# Altium footprint library PcbLib.PcbLib: 285 footprints (part 10 of 18)
Each footprint in its own frame and in the unit in brackets; x right, y up, seen from the top. Pads: shape width x height; smd on the part's side, far side on the other; paste and mask are expansions set on the pad; w line width, h text height; cw(c..) or ccw(c..) is an arc to the next point about the centre after c.
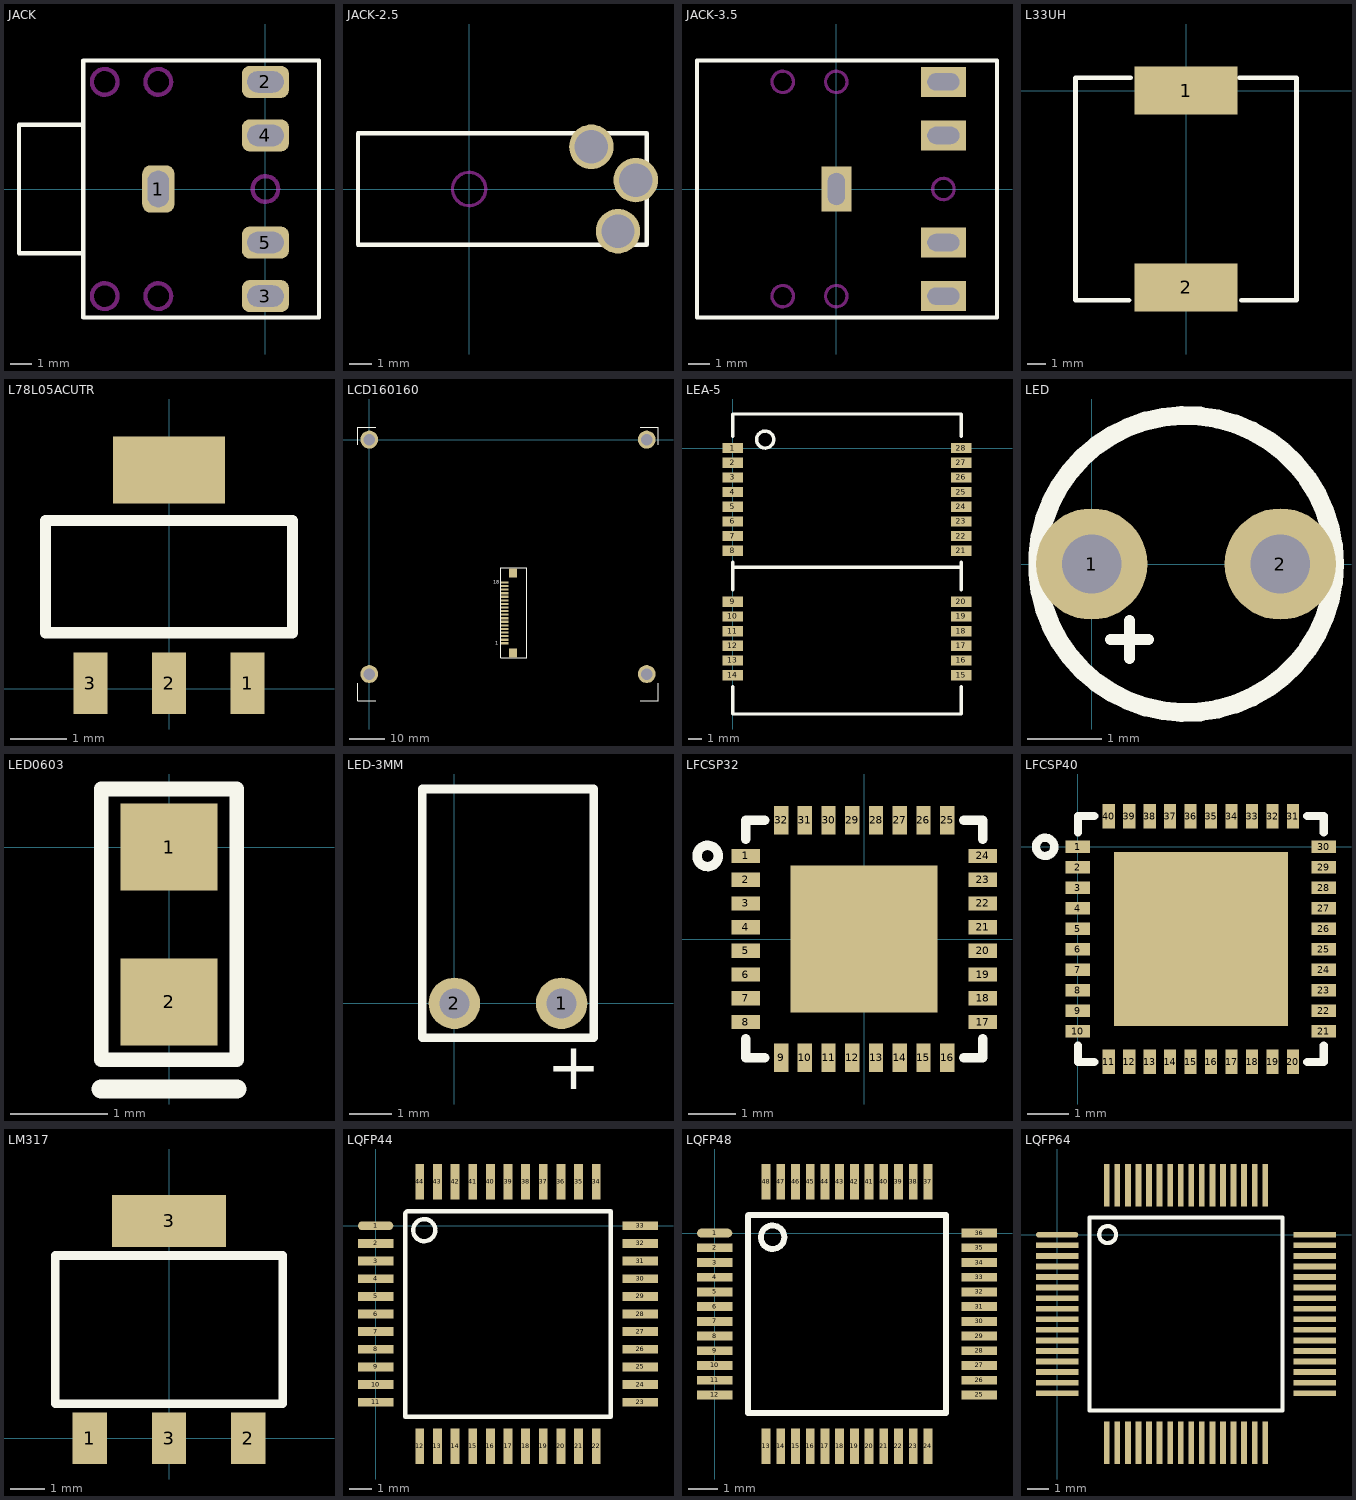
[diagram p9: the footprints below, top view; thin cyan lines are the x and y axes]

## JACK [mm]
pads (5):
  rrect50% 1.5x2.2 hole 1 slot 1.7 at 90 deg: 1(-5,0)
  rrect50% 2.2x1.5 hole 1 slot 1.7 at 0 deg: 2(0,5) 3(0,-5) 4(0,2.5) 5(0,-2.5)
Top Overlay:
  lines w0.2: -8.5,-3 -11.5,-3 -11.5,3 -8.5,3 ; -8.5,-6 2.5,-6 2.5,6 -8.5,6 -8.5,-6
Keep-Out Layer:
  circle w0.2: c0,0 r0.6
  circle w0.2: c-5,-5 r0.6
  circle w0.2: c-5,5 r0.6
  circle w0.2: c-7.5,5 r0.6
  circle w0.2: c-7.5,-5 r0.6

## JACK-2.5 [mm]
pads (3):
  round 2 hole 1.5: ""(5.5,1.9) ""(6.7,-1.9) ""(7.5,0.4)
Top Overlay:
  lines w0.2: -5,-2.5 8,-2.5 8,2.5 -5,2.5 -5,-2.5
Keep-Out Layer:
  circle w0.15: c0,0 r0.75

## JACK-3.5 [mm]
pads (5):
  rect 1.4x2.1 hole 0.8 slot 1.5 at 90 deg: ""(0,0)
  rect 2.1x1.4 hole 0.8 slot 1.5 at 0 deg: ""(5,-5) ""(5,-2.5) ""(5,2.5) ""(5,5)
Top Overlay:
  lines w0.2: -6.5,-6 7.5,-6 7.5,6 -6.5,6 -6.5,-6
Keep-Out Layer:
  circle w0.15: c-2.5,5 r0.5
  circle w0.15: c-2.5,-5 r0.5
  circle w0.15: c0,-5 r0.5
  circle w0.15: c0,5 r0.5
  circle w0.15: c5,0 r0.5

## L33UH [mm]
pads (2):
  rect 5.6x2.6 smd: 1(0,0) 2(0,-10.7)
Top Overlay:
  lines w0.254: -3.1,-11.4 -6,-11.4 -6,-1.2 -6,0 -6,0.7 -3,0.7 ; 2.9,0.7 6,0.7 6,0 6,-0.9 6,-11.4 3,-11.4

## L78L05ACUTR [mm]
pads (4):
  rect 0.6x1.1 smd: 1(1.4,0.1) 2(0,0.1) 3(-1.4,0.1)
  rect 2x1.2 smd: ""(0,3.9)
Top Overlay:
  lines w0.2: -2.2,1 2.2,1 2.2,3 0,3 -2.2,3 -2.2,1

## LCD160160 [mm]
pads (24):
  rect 2x0.6 smd: 1(37.85,-56.9) 2(37.85,-55.9) 3(37.85,-54.9) 4(37.85,-53.9) 5(37.85,-52.9) 6(37.85,-51.9) 7(37.85,-50.9) 8(37.85,-49.9) 9(37.85,-48.9) 10(37.85,-47.9) 11(37.85,-46.9) 12(37.85,-45.9) 13(37.85,-44.9) 14(37.85,-43.9) 15(37.85,-42.9) 16(37.85,-41.9) 17(37.85,-40.9) 18(37.85,-39.9)
  round 5 hole 3.2: ""(0,-65.5) ""(0,0) ""(77.5,-65.5) ""(77.5,0)
  rect 2.2x2.5 smd: ""(40.1,-59.55) ""(40.1,-37.25)
Top Overlay:
  lines w0.254: -3.15,-68 -3.15,-73 1.85,-73 ; -3.15,-1.5 -3.15,3.5 1.85,3.5 ; 43.975,-39.2 43.975,-35.8 36.775,-35.8 36.775,-61 43.975,-61 43.975,-38.946 ; 75.65,-73 80.65,-73 80.65,-68 ; 75.65,3.5 80.65,3.5 80.65,-1.5
  text "1" at 35.15,-57.3 h1
  text "18" at 34.65,-40.3 h1

## LEA-5 [mil]
pads (28):
  rect 60x30 smd: 1(0,0) 2(0,-43) 3(0,-86) 4(0,-129) 5(0,-172) 6(0,-215) 7(0,-258) 8(0,-301) 9(0,-451) 10(0,-494) 11(0,-537) 12(0,-580) 13(0,-623) 14(0,-666) 15(670,-666) 16(670,-623) 17(670,-580) 18(670,-537) 19(670,-494) 20(670,-451) 21(670,-301) 22(670,-258) 23(670,-215) 24(670,-172) 25(670,-129) 26(670,-86) 27(670,-43) 28(670,0)
Top Overlay:
  circle w10: c95,25 r25
  lines w10: 0,-700 0,-780 670,-780 670,-700 ; 0,-415 0,-335 ; 0,-350 670,-350 ; 0,35 0,100 670,100 670,35 ; 670,-415 670,-335

## LED [mm]
pads (2):
  round 1.5 hole 0.8: 1(0,0) 2(2.54,0)
Top Overlay:
  circle w0.254: c1.27,0 r2
  lines w0.15: 0.254,-1.016 0.762,-1.016 ; 0.508,-1.27 0.508,-0.762

## LED0603 [mm]
pads (2):
  rect 1x0.9 smd: 1(0,0) 2(0,-1.6)
Top Overlay:
  lines w0.15: -0.7,-2.2 0.7,-2.2 0.7,0.6 -0.7,0.6 -0.7,-2.2
  lines w0.2: -0.7,-2.5 0.7,-2.5

## LED-3MM [mm]
pads (2):
  round 1.2 hole 0.7: 1(2.5,0) 2(0,0)
Top Overlay:
  lines w0.2: -0.75,-0.8 -0.75,-0.7 -0.75,0 -0.75,5 3.25,5 3.25,0 3.25,-0.8 -0.35,-0.8 -0.75,-0.8
  text "+" at 2.15,-2 h1.1

## LFCSP32 [mm]
pads (33):
  rect 0.6x0.3 smd: 1(-2.5,1.75) 2(-2.5,1.25) 3(-2.5,0.75) 4(-2.5,0.25) 5(-2.5,-0.25) 6(-2.5,-0.75) 7(-2.5,-1.25) 8(-2.5,-1.75) 17(2.5,-1.75) 18(2.5,-1.25) 19(2.5,-0.75) 20(2.5,-0.25) 21(2.5,0.25) 22(2.5,0.75) 23(2.5,1.25) 24(2.5,1.75)
  rect 0.3x0.6 smd: 9(-1.75,-2.5) 10(-1.25,-2.5) 11(-0.75,-2.5) 12(-0.25,-2.5) 13(0.25,-2.5) 14(0.75,-2.5) 15(1.25,-2.5) 16(1.75,-2.5) 25(1.75,2.5) 26(1.25,2.5) 27(0.75,2.5) 28(0.25,2.5) 29(-0.25,2.5) 30(-0.75,2.5) 31(-1.25,2.5) 32(-1.75,2.5)
  rect 3.1x3.1 smd: ""(0,0)
Top Overlay:
  circle w0.2: c-3.3,1.75 r0.224
  lines w0.2: -2.5,-2.1 -2.5,-2.5 -2.1,-2.5 ; -2.5,2.1 -2.5,2.5 -2.1,2.5 ; 2.1,-2.5 2.5,-2.5 2.5,-2.1 ; 2.1,2.5 2.5,2.5 2.5,2.1

## LFCSP40 [mm]
pads (41):
  rect 0.6x0.3 smd: 1(0,0) 2(0,-0.5) 3(0,-1) 4(0,-1.5) 5(0,-2) 6(0,-2.5) 7(0,-3) 8(0,-3.5) 9(0,-4) 10(0,-4.5) 21(6,-4.5) 22(6,-4) 23(6,-3.5) 24(6,-3) 25(6,-2.5) 26(6,-2) 27(6,-1.5) 28(6,-1) 29(6,-0.5) 30(6,0)
  rect 0.3x0.6 smd: 11(0.75,-5.25) 12(1.25,-5.25) 13(1.75,-5.25) 14(2.25,-5.25) 15(2.75,-5.25) 16(3.25,-5.25) 17(3.75,-5.25) 18(4.25,-5.25) 19(4.75,-5.25) 20(5.25,-5.25) 31(5.25,0.75) 32(4.75,0.75) 33(4.25,0.75) 34(3.75,0.75) 35(3.25,0.75) 36(2.75,0.75) 37(2.25,0.75) 38(1.75,0.75) 39(1.25,0.75) 40(0.75,0.75)
  rect 4.25x4.25 smd: ""(3,-2.25)
Top Overlay:
  circle w0.2: c-0.8,0 r0.224
  lines w0.2: 0,-4.85 0,-5.25 0.4,-5.25 ; 0,0.35 0,0.75 0.4,0.75 ; 5.6,-5.25 6,-5.25 6,-4.85 ; 5.6,0.75 6,0.75 6,0.35

## LM317 [mm]
pads (4):
  rect 1x1.5 smd: 1(-2.3,0) 2(2.3,0) 3(0,0)
  rect 3.3x1.5 smd: 3(0,6.3)
Top Overlay:
  lines w0.254: -3.3,1 -3.3,5.3 3.3,5.3 3.3,1 0,1 -3.3,1

## LQFP44 [mm]
pads (44):
  oval 1.6x0.4 smd: 1(0,0)
  rect 1.6x0.4 smd: 2(0,-0.8) 3(0,-1.6) 4(0,-2.4) 5(0,-3.2) 6(0,-4) 7(0,-4.8) 8(0,-5.6) 9(0,-6.4) 10(0,-7.2) 11(0,-8) 23(12,-8) 24(12,-7.2) 25(12,-6.4) 26(12,-5.6) 27(12,-4.8) 28(12,-4) 29(12,-3.2) 30(12,-2.4) 31(12,-1.6) 32(12,-0.8) 33(12,0)
  rect 0.4x1.6 smd: 12(2,-10) 13(2.8,-10) 14(3.6,-10) 15(4.4,-10) 16(5.2,-10) 17(6,-10) 18(6.8,-10) 19(7.6,-10) 20(8.4,-10) 21(9.2,-10) 22(10,-10) 34(10,2) 35(9.2,2) 36(8.4,2) 37(7.6,2) 38(6.8,2) 39(6,2) 40(5.2,2) 41(4.4,2) 42(3.6,2) 43(2.8,2) 44(2,2)
Top Overlay:
  circle w0.2: c2.2,-0.2 r0.5
  lines w0.2: 2.67,0.665 10.665,0.665 10.665,-8.665 1.335,-8.665 1.335,-0.67 1.335,0.565 1.435,0.665 3,0.665

## LQFP48 [mm]
pads (48):
  oval 1.2x0.3 smd: 1(0,0)
  rect 1.2x0.3 smd: 2(0,-0.5) 3(0,-1) 4(0,-1.5) 5(0,-2) 6(0,-2.5) 7(0,-3) 8(0,-3.5) 9(0,-4) 10(0,-4.5) 11(0,-5) 12(0,-5.5) 25(9,-5.5) 26(9,-5) 27(9,-4.5) 28(9,-4) 29(9,-3.5) 30(9,-3) 31(9,-2.5) 32(9,-2) 33(9,-1.5) 34(9,-1) 35(9,-0.5) 36(9,0)
  rect 0.3x1.2 smd: 13(1.75,-7.25) 14(2.25,-7.25) 15(2.75,-7.25) 16(3.25,-7.25) 17(3.75,-7.25) 18(4.25,-7.25) 19(4.75,-7.25) 20(5.25,-7.25) 21(5.75,-7.25) 22(6.25,-7.25) 23(6.75,-7.25) 24(7.25,-7.25) 37(7.25,1.75) 38(6.75,1.75) 39(6.25,1.75) 40(5.75,1.75) 41(5.25,1.75) 42(4.75,1.75) 43(4.25,1.75) 44(3.75,1.75) 45(3.25,1.75) 46(2.75,1.75) 47(2.25,1.75) 48(1.75,1.75)
Top Overlay:
  circle w0.2: c1.97,-0.14 r0.4
  lines w0.2: 1.135,-6.115 1.135,-0.52 1.135,0.605 1.145,0.615 2.27,0.615 7.865,0.615 7.865,-6.115 1.135,-6.115

## LQFP64 [mm]
pads (64):
  oval 2x0.27 smd: 1(0,0)
  rect 2x0.27 smd: 2(0,-0.5) 3(0,-1) 4(0,-1.5) 5(0,-2) 6(0,-2.5) 7(0,-3) 8(0,-3.5) 9(0,-4) 10(0,-4.5) 11(0,-5) 12(0,-5.5) 13(0,-6) 14(0,-6.5) 15(0,-7) 16(0,-7.5) 33(12.2,-7.5) 34(12.2,-7) 35(12.2,-6.5) 36(12.2,-6) 37(12.2,-5.5) 38(12.2,-5) 39(12.2,-4.5) 40(12.2,-4) 41(12.2,-3.5) 42(12.2,-3) 43(12.2,-2.5) 44(12.2,-2) 45(12.2,-1.5) 46(12.2,-1) 47(12.2,-0.5) 48(12.2,0)
  rect 0.27x2 smd: 17(2.35,-9.85) 18(2.85,-9.85) 19(3.35,-9.85) 20(3.85,-9.85) 21(4.35,-9.85) 22(4.85,-9.85) 23(5.35,-9.85) 24(5.85,-9.85) 25(6.35,-9.85) 26(6.85,-9.85) 27(7.35,-9.85) 28(7.85,-9.85) 29(8.35,-9.85) 30(8.85,-9.85) 31(9.35,-9.85) 32(9.85,-9.85) 49(9.85,2.35) 50(9.35,2.35) 51(8.85,2.35) 52(8.35,2.35) 53(7.85,2.35) 54(7.35,2.35) 55(6.85,2.35) 56(6.35,2.35) 57(5.85,2.35) 58(5.35,2.35) 59(4.85,2.35) 60(4.35,2.35) 61(3.85,2.35) 62(3.35,2.35) 63(2.85,2.35) 64(2.35,2.35)
Top Overlay:
  circle w0.2: c2.39,0.01 r0.4
  lines w0.2: 1.54,0.81 1.535,0.805 ; 1.535,0.805 1.545,0.815 3.07,0.815 10.665,0.815 10.665,-8.315 1.535,-8.315 1.535,-0.72 1.535,0.805